# EAGLE library part THERMOCOUPLE-MAX31855#IC (library buckstepdown)
Thermocouple Analog-to-Digital Converter based on MAX31855 chip Symbol with thermocouple connector pins MAX31855 datasheet available here: https://www.maximintegrated.com/en/products/analog/sensors-and-sensor-interface/MAX31855.html Click here to find device on ebay.com <http://www.ebay.com/sch/max31855k+module>
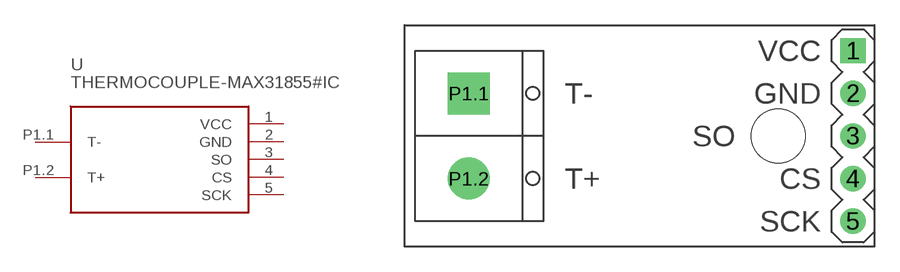
[diagram p48: symbol with the pads of THERMOCOUPLE-MAX31855#IC; footprint THERMOCOUPLE-MAX31855#IC]

Designator prefix -

## THERMOCOUPLE-MAX31855#IC  [THERMOCOUPLE-MAX31855#IC]
1  VCC  pwr
2  GND  out
3  SO
4  CS
5  SCK
P1.1  T-
P1.2  T+

## Footprint THERMOCOUPLE-MAX31855#IC (pad centres in mm)
Thermocouple Analog-to-Digital Converter based on MAX31855 chip Footprint with thermocouple connector pins
drill 1 square: 1 12.7,5.08
drill 1: 2 12.7,2.54; 3 12.7,0; 4 12.7,-2.54; 5 12.7,-5.08
drill 1.2 pad 2.5 square: P1.1 -10.16,2.54
drill 1.2 pad 2.5: P1.2 -10.16,-2.54
hole 3.2 at 8.255,0